# Altium schematic symbol library zhao_Schlib.SchLib: 17 symbols
Pins are listed as number, name and electrical type; pins without a type are passive.

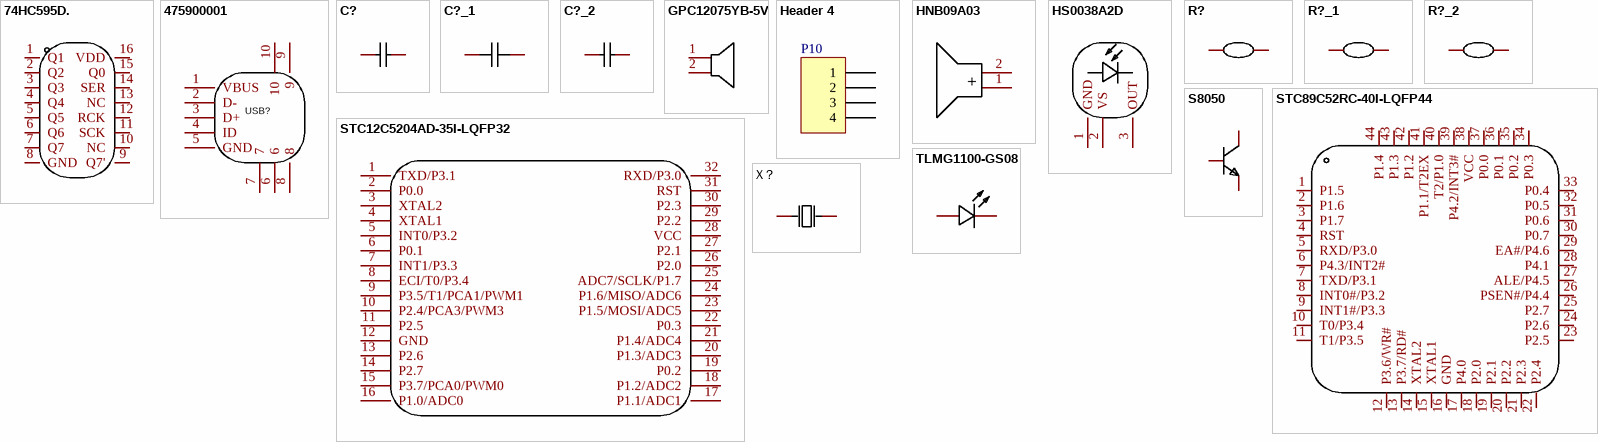
[diagram p0: symbols 74HC595D. to X？]

## 74HC595D.
designator ?  (value not drawn)
Designer: U?; Symbol: 74HC595D.; Device: 74HC595D.
pins: 1 Q1, 2 Q2, 3 Q3, 4 Q4, 5 Q5, 6 Q6, 7 Q7, 8 GND, 9 Q7', 10 NC, 11 SCK, 12 RCK, 13 NC, 14 SER, 15 Q0, 16 VDD

## 475900001
designator USB?  (value not drawn)
Micro-AB 母座; Manufacturer: MOLEX; Symbol: 47590-0001; Add into BOM: yes; Number of Contacts: 5; Number of Ports: 1; Name: 475900001; Device: 475900001; LCSC Part Name: Micro-AB 母座; Supplier Part: C136001; Manufacturer Part: 475900001; Supplier Footprint: SMD; JLCPCB Part Class: Extended Part; Datasheet: https://atta.szlcsc.com/upload/public/pdf/source/20171113/C136001_15105610887281115466.pdf; Supplier: LCSC; Convert to PCB: yes; Connector Type: Micro-AB; Standard: -; Gender: 母座
footprint MICRO-USB-SMD_47590-0001
3D model MICRO-USB-SMD_47590-0001
pins: 1 VBUS, 2 D-, 3 D+, 4 ID, 5 GND, 6, 7, 8, 9, 10

## C?
designator C?, comment GRM21BR60J107ME15L  (value not drawn)
C0805; Manufacturer: muRata(村田); Name: 100uF; Add into BOM: yes; Value: 100uF; Tolerance: ±20%; Voltage Rated: 6.3V; Temperature Coefficient: X5R; Symbol: GRM21BR60J107ME15L; Device: GRM21BR60J107ME15L; LCSC Part Name: 100uF ±20% 6.3V; Supplier Part: C141660; Manufacturer Part: GRM21BR60J107ME15L; Supplier Footprint: 0805; JLCPCB Part Class: Extended Part; Datasheet: https://atta.szlcsc.com/upload/public/pdf/source/20171113/C141660_15105613320671115822.pdf; Supplier: LCSC; Convert to PCB: yes
footprint C0805
3D model C0805_L2.0-W1.3-H1.3
pins: 1, 2

## C?_1
designator C?, comment CL10B104KB8NNNC  (value not drawn)
C0603; Manufacturer: SAMSUNG(三星); Name: 100nF; Add into BOM: yes; Value: 100nF; Tolerance: ±10%; Voltage Rated: 50V; Temperature Coefficient: X7R; Symbol: CL10B104KB8NNNC; Device: CL10B104KB8NNNC; LCSC Part Name: 100nF ±10% 50V; Supplier Part: C1591; Manufacturer Part: CL10B104KB8NNNC; Supplier Footprint: 0603; JLCPCB Part Class: Extended Part; Datasheet: https://atta.szlcsc.com/upload/public/pdf/source/20160103/1457707680512.pdf; Supplier: LCSC; Convert to PCB: yes
footprint C0603
3D model C0603_L1.6-W0.8-H0.8
pins: 1, 2

## C?_2
designator C?, comment CL05A106MQ5NUNC  (value not drawn)
C0402; Manufacturer: SAMSUNG(三星); Name: 10uF; Add into BOM: yes; Value: 10uF; Tolerance: ±20%; Voltage Rated: 6.3V; Temperature Coefficient: X5R; Symbol: CL05A106MQ5NUNC; Device: CL05A106MQ5NUNC; LCSC Part Name: 10uF ±20% 6.3V; Supplier Part: C15525; Manufacturer Part: CL05A106MQ5NUNC; Supplier Footprint: 0402; JLCPCB Part Class: Basic Part; Datasheet: https://atta.szlcsc.com/upload/public/pdf/source/20220823/2B02EE04F8F211D38A52DCB16EB6BEBA.pdf; Supplier: LCSC; Convert to PCB: yes
footprint C0402
3D model C0402_L1.0-W0.5-H0.5
pins: 1, 2

## GPC12075YB-5V
designator BUZZER?  (value not drawn)
BUZZER1; Manufacturer: INGHAi(赢海); Name: 4000Hz; Add into BOM: yes; Oscillator Circuit: 无源(外部驱动); Technology Type: 压电式; Rated Voltage: 5V; Value: 4000Hz; Sound Pressure Level (SPL): 80dB@12V,10cm; Symbol: GPC12075YB-5V; Device: GPC12075YB-5V; LCSC Part Name: GPC12075YB-5V; Supplier Part: C252948; Manufacturer Part: GPC12075YB-5V; Supplier Footprint: -; JLCPCB Part Class: Extended Part; Datasheet: https://atta.szlcsc.com/upload/public/pdf/source/20180829/C252948_AFFEFE4B0E08148D92156D1A8E3E594F.pdf; Supplier: LCSC; Convert to PCB: yes; Diameter (φD): 12mm; Height: 7.7mm
footprint BUZ-TH_BD12.0-P6.50-D0.8-FD
3D model BUZ-TH_BD12.0-H6.0-P6.5
pins: 1, 2

## Header 4
designator P10, comment Header, 4-Pin  (value not drawn)
2.54*4-Pin; LatestRevisionDate: 17-Jul-2002; LatestRevisionNote: Re-released for DXP Platform.; Publisher: Altium Limited; Value: *
footprint HDR1X9 (Connector; Header; 9 Position)
signal-integrity model Connector
footprint HDR1X5 (Footprint not found)
pins: 1, 2, 3, 4

## HNB09A03
designator BUZZER?  (value not drawn)
BUZZER?; Manufacturer: 华能; Name: 3kHz; Add into BOM: yes; Oscillator Circuit: 有源(内含驱动线路); Technology Type: 电磁式; Rated Voltage: 3V; Operating Voltage: 1.5V~4.5V; Current Consumption: 30mA; Value: 3kHz; Sound Pressure Level (SPL): 85dB@10cm; Symbol: HNB09A03; Device: HNB09A03; LCSC Part Name: 电磁式有源一体蜂鸣器HNB09A03; Supplier Part: C96102; Manufacturer Part: HNB09A03; Supplier Footprint: 插件,D=9mm; JLCPCB Part Class: Extended Part; Datasheet: https://atta.szlcsc.com/upload/public/pdf/source/20170522/1495448326172.pdf; Supplier: LCSC; Convert to PCB: yes; Diameter (φD): 9mm; Length: -; Width: -; Height: 5.5mm; Operating Temperature: -20℃~+70℃
footprint BUZ-TH_BD9.0-P5.00-D0.6-FD
3D model BUZ-TH_D9.0-H5.5-P5.0
pins: 1 +, 2 -

## HS0038A2D
designator CGQ?  (value not drawn)
Manufacturer: VISHAY(威世); Add into BOM: yes; Supply Current: 1.1mA; Transmission Distance: 35m; Half Angle: ±45°; Power Consumption: 50mW; Name: HS0038A2D; Symbol: HS0038A; Device: HS0038A2D; LCSC Part Name: 35m ±45°; Supplier Part: C5126; Manufacturer Part: HS0038A2D; Supplier Footprint: SIP-3; JLCPCB Part Class: Extended Part; Datasheet: https://atta.szlcsc.com/upload/public/pdf/source/20140304/1457707007200.pdf; Supplier: LCSC; Convert to PCB: yes; Supply Voltage: -; Center Frequency: -; Operating Temperature: -25℃~+85℃
footprint OPTO-TH_HS0038A2
3D model OPTO-TH_L10.0-W5.8-H12.5-P2.54
pins: 1 GND, 2 VS, 3 OUT

## R?
designator R?, comment ERJPB6B1001V  (value not drawn)
R0805; Manufacturer: PANASONIC(松下); Add into BOM: yes; Name: ERJPB6B1001V; Symbol: ERJPB6B1001V; Device: ERJPB6B1001V; LCSC Part Name: 1KΩ(1001) ±0.1%; Supplier Part: C413712; Manufacturer Part: ERJPB6B1001V; Supplier Footprint: 0805; JLCPCB Part Class: Extended Part; Datasheet: https://atta.szlcsc.com/upload/public/pdf/source/20190821/C413712_16C6B59B4DECA51D4907C6F5D5BAEAA8.pdf; Supplier: LCSC; Convert to PCB: yes
footprint R0805
3D model R0805_L2.0-W1.3-H0.6
pins: 1, 2

## R?_1
designator R?, comment ERA3VEB1001V  (value not drawn)
R0603; Manufacturer: PANASONIC(松下); Name: 1kΩ; Add into BOM: yes; Temperature Coefficient: ±25ppm/K; Tolerance: ±0.1%; Overload Voltage (Max): 100V; Power(Watts): 125mW; Value: 1kΩ; Symbol: ERA3VEB1001V; Device: ERA3VEB1001V; LCSC Part Name: 1KΩ(1001) ±0.1%; Supplier Part: C490794; Manufacturer Part: ERA3VEB1001V; Supplier Footprint: 0603; JLCPCB Part Class: Extended Part; Datasheet: https://atta.szlcsc.com/upload/public/pdf/source/20200407/C490794_144E786BD6B5906C11E86C00580B1EF5.pdf; Supplier: LCSC; Convert to PCB: yes; Operating Temperature Range: -55℃~+155℃; Type: 薄膜电阻
footprint R0603
3D model R0603
pins: 1, 2

## R?_2
designator R?, comment ERA2ARB472X  (value not drawn)
R0402; Manufacturer: PANASONIC(松下); Name: 4.7kΩ; Add into BOM: yes; Value: 4.7kΩ; Tolerance: ±0.1%; Power(Watts): 62.5mW; Temperature Coefficient: ±10ppm/℃; Overload Voltage (Max): 50V; Symbol: ERA2ARB472X; Device: ERA2ARB472X; LCSC Part Name: 4.7kΩ ±0.1% 62.5mW; Supplier Part: C509085; Manufacturer Part: ERA2ARB472X; Supplier Footprint: 0402; JLCPCB Part Class: Extended Part; Datasheet: https://atta.szlcsc.com/upload/public/pdf/source/20200407/C509085_C93773EA5E0086103E75481E0ADBAB37.pdf; Supplier: LCSC; Convert to PCB: yes; Type: 薄膜电阻; Operating Temperature Range: -55℃~+155℃
footprint R0402
3D model R0402_L1.0-W0.5-H0.5
pins: 1, 2

## S8050
designator Q?, comment S8050_C181158  (value not drawn)
Manufacturer: Hottech(合科泰); Name: S8050; Add into BOM: yes; Transistor Type: NPN; Collector-Emitter Breakdown Voltage (Vceo): 25V; Collector Current (Ic): 500mA; Power Dissipation (Pd): 300mW; Collector Cut-Off Current (Icbo): 100nA; Collector-Emitter Saturation Voltage (VCE(sat)@Ic,Ib): 600mV@500mA,50mA; Transition Frequency (fT): 150MHz; Symbol: S8050_C181158; Device: S8050_C181158; LCSC Part Name: NPN 25V 500mA; Supplier Part: C181158; Manufacturer Part: S8050; Supplier Footprint: SOT-23; JLCPCB Part Class: Extended Part; Datasheet: https://atta.szlcsc.com/upload/public/pdf/source/20220506/D987F39D56F2975D34EC7947E75C4ABC.pdf; Supplier: LCSC; Convert to PCB: yes; Operating Temperature: +150℃@(Tj)
footprint SOT-23
3D model SOT-23-3L_L2.9-W1.6-H1.1-LS2.8-P0.95
pins: 1, 2, 3

## STC12C5204AD-35I-LQFP32
designator U?  (value not drawn)
Manufacturer: STC(宏晶); Add into BOM: yes; CPU Core: 51系列; Maximum Frequency: 35MHz; Supply Voltage Range: 4V~5.5V; Internal Oscillator: 有; Program FLASH Size: 4KB; RAM Size: 256Byte; EEPROM/Data FLASH Size: 1KB; GPIO Ports Number: 27; ADC (Units/Channels/bits): 1@x8ch/8bit; 16Bit Timer Number: 2; U(S)ART Number: 1; Peripherals / Functions / Protocol Stacks: 低电压检测；看门狗；CCP捕获/比较; Name: STC12C5204AD-35I-LQFP32; Symbol: STC12C5204AD-35I-LQFP32; Device: STC12C5204AD-35I-LQFP32; LCSC Part Name: 51系列 35MHz 闪存：4KB RAM：256Byte; Supplier Part: C44492; Manufacturer Part: STC12C5204AD-35I-LQFP32; Supplier Footprint: LQFP-32(7x7); JLCPCB Part Class: Extended Part; Datasheet: https://atta.szlcsc.com/upload/public/pdf/source/20200306/C44492_846154CC260F9CF9A5C24DC9121DA3F8.pdf; Supplier: LCSC; Convert to PCB: yes; External Clock Frequency Rang: -; DAC (Units/Channels/bits): -; (E)PWM (Units/Channels/bits): -; 8Bit Timer Number: -; 32Bit Timer Number: -; CMP Number: -; I2C Number: -; I2S Number: -; (Q)SPI Number: -; CAN Number: -; USB (H/D/OTG): -; Operating Temperature Range: -40℃~+85℃
footprint LQFP-32_L7.0-W7.0-P0.80-LS9.0-BL
3D model LQFP-32_L7.0-W7.0-H1.4-LS9.0-P0.80
pins: 1 TXD/P3.1, 2 P0.0, 3 XTAL2, 4 XTAL1, 5 INT0/P3.2, 6 P0.1, 7 INT1/P3.3, 8 ECI/T0/P3.4, 9 P3.5/T1/PCA1/PWM1, 10 P2.4/PCA3/PWM3, 11 P2.5, 12 GND, 13 P2.6, 14 P2.7, 15 P3.7/PCA0/PWM0, 16 P1.0/ADC0, 17 P1.1/ADC1, 18 P1.2/ADC2, 19 P0.2, 20 P1.3/ADC3, 21 P1.4/ADC4, 22 P0.3, 23 P1.5/MOSI/ADC5, 24 P1.6/MISO/ADC6, 25 ADC7/SCLK/P1.7, 26 P2.0, 27 P2.1, 28 VCC, 29 P2.2, 30 P2.3, 31 RST, 32 RXD/P3.0

## STC89C52RC-40I-LQFP44
designator U?  (value not drawn)
Manufacturer: STC(宏晶); Symbol: STC89C52RC-40I_C8707; Add into BOM: yes; CPU Core: 51系列; Operating Voltage Range: 3.3V~5.5V; Program Storage Size: 8KB; Program Memory Type: FLASH; RAM Size: 512Byte; GPIO Ports Number: 39; 16Bit Timer: 3; UART/USART: 1; Peripheral/Function: 看门狗; Watchdog: 有; Name: STC89C52RC-40I-LQFP44; Device: STC89C52RC-40I-LQFP44; LCSC Part Name: 51系列; Supplier Part: C8707; Manufacturer Part: STC89C52RC-40I-LQFP44; Supplier Footprint: LQFP-44(10x10); JLCPCB Part Class: Extended Part; Datasheet: https://atta.szlcsc.com/upload/public/pdf/source/20120807/1457706521177.pdf; Supplier: LCSC; Convert to PCB: yes; CPU Maximum Speed: -; EEPROM: 8KB; ADC (Bit): -; DAC (Bit): -; PWM (Bit): -; 8Bit Timer: -; 32Bit Timer: -; CAN: -; I2C: -; I2S: -; SPI: -; Universal Serial Bus: -; Internal Comparator: -; communication protocol: -; Real-Time Clock: -; Infrared Data Association: -; Low-Voltage Detect: -; CCP Capture/Compare: -; Secure Digital Input and Output: -; Direct Memory Access: -; Internal Oscillator: -; Operating Temperature Range: -40℃~+85℃
footprint STC89C52RC-40I-LQFP44
3D model LQFP-44_L10.0-W10.0-H1.4-LS12.0-P0.80
pins: 1 P1.5, 2 P1.6, 3 P1.7, 4 RST, 5 RXD/P3.0, 6 P4.3/INT2#, 7 TXD/P3.1, 8 INT0#/P3.2, 9 INT1#/P3.3, 10 T0/P3.4, 11 T1/P3.5, 12 P3.6/WR#, 13 P3.7/RD#, 14 XTAL2, 15 XTAL1, 16 GND, 17 P4.0, 18 P2.0, 19 P2.1, 20 P2.2, 21 P2.3, 22 P2.4, 23 P2.5, 24 P2.6, 25 P2.7, 26 PSEN#/P4.4, 27 ALE/P4.5, 28 P4.1, 29 EA#/P4.6, 30 P0.7, 31 P0.6, 32 P0.5, 33 P0.4, 34 P0.3, 35 P0.2, 36 P0.1, 37 P0.0, 38 VCC, 39 P4.2/INT3#, 40 T2/P1.0, 41 P1.1/T2EX, 42 P1.2, 43 P1.3, 44 P1.4

## TLMG1100-GS08
designator LED?  (value not drawn)
LED?; Manufacturer: VISHAY(威世); Add into BOM: yes; Illumination Color: 普绿/黄绿; Luminous Intensity (IF=20mA): 35mcd; Dominant Wavelength / Coordinate rank: 570nm; Name: TLMG1100-GS08; Symbol: TLMG1100-GS08; Device: TLMG1100-GS08; LCSC Part Name: 普绿/黄绿 0603; Supplier Part: C241891; Manufacturer Part: TLMG1100-GS08; Supplier Footprint: 0603; JLCPCB Part Class: Extended Part; Datasheet: https://atta.szlcsc.com/upload/public/pdf/source/20180719/C241891_3C76D4DD30CDE57601F75DEAAAECA69D.pdf; Supplier: LCSC; Convert to PCB: yes; Mounting Type: 表面贴装; Correlated Color Temperature - CCT(K): -; Luminous Flux/Radiant Flux: -
footprint LED0603
3D model LED0603-RD_GREEN
pins: 1 A, 2 K

## X？
designator X?, comment DST310S 32.768KHz  (value not drawn)
晶振; Manufacturer: KDS(大真空); Add into BOM: yes; Name: -; Symbol: DST310S 32.768KHz; Device: DST310S 32.768KHz; LCSC Part Name: 32.768KHz 12.5PF 20ppm; Supplier Part: C93232; Manufacturer Part: DST310S 32.768KHz; Supplier Footprint: SMD3215-2P; JLCPCB Part Class: Extended Part; Datasheet: https://atta.szlcsc.com/upload/public/pdf/source/20170919/C93232_1505799689477977622.pdf; Supplier: LCSC; Convert to PCB: yes; Crystal Type: -; Value: -; Load Capacitance: -; Operating Temperature: -
footprint OSC-SMD_L3.2-W1.5
3D model OSC-SMD_L3.2-W1.5-H0.8
pins: 1 OSC1, 2 OSC2